# Altium schematic symbol library HC-05.SchLib: 1 symbol
Pins are listed as number, name and electrical type; pins without a type are passive.

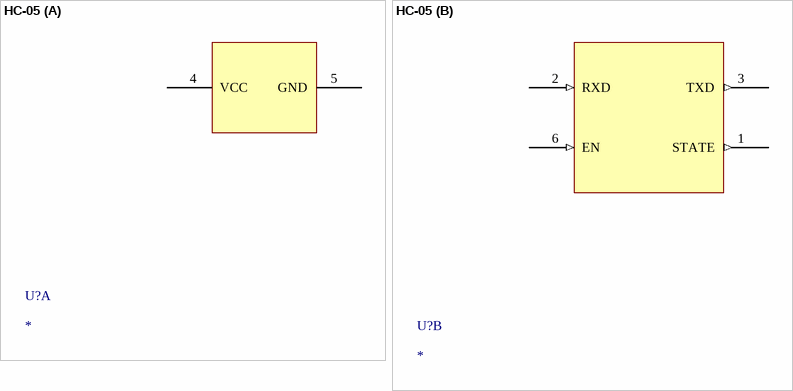
[diagram p0: symbol HC-05]

## HC-05
designator U?
Manufacturer: Seeed Technology Co., Ltd; Utilized IC / Part: HC05; Function: Bluetooth; Package: Bulk; ComponentLink1Description: Datasheet; ComponentLink1URL: https://www.digikey.com/en/products/detail/seeed-technology-co-ltd/113020008/5774955?s=N4IgTCBcDaIBIGEC0AGArCAugXyA
footprint PCBComponent_1
part A pins: 4 VCC, 5 GND
part B pins: 1 STATE (out), 2 RXD (in), 3 TXD (out), 6 EN (in)